# EAGLE library part SI4931DY (library radish)
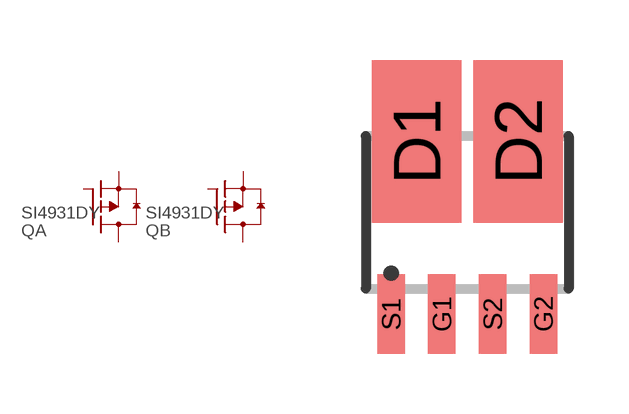
[diagram p12: symbol with the pads of SOIC8-POWER; footprint SOIC8-POWER]

Designator prefix Q; gates A=P-MOSFET B=P-MOSFET

## SI4931DY  [SOIC8-POWER]
D1  A:D  pas
D2  B:D  pas
G1  A:G  pas
G2  B:G  pas
S1  A:S  pas
S2  B:S  pas

## Footprint SOIC8-POWER (pad centres in mm)
SOIC-8 with large copper planes for heat dissipation As described in AN808, "Mounting LITTLE FOOT SO-8 Power MOSFETs" at http://vishay.ru/docs/70740/70740.pdf
smd 2.235 x 4.064: D1 -1.27,1.778; D2 1.27,1.778
smd 0.686 x 1.981: G1 -0.635,-2.54; G2 1.905,-2.54; S1 -1.905,-2.54; S2 0.635,-2.54